# Altium schematic symbol library HK_SCHLIB.SchLib: 347 symbols (part 6 of 8)
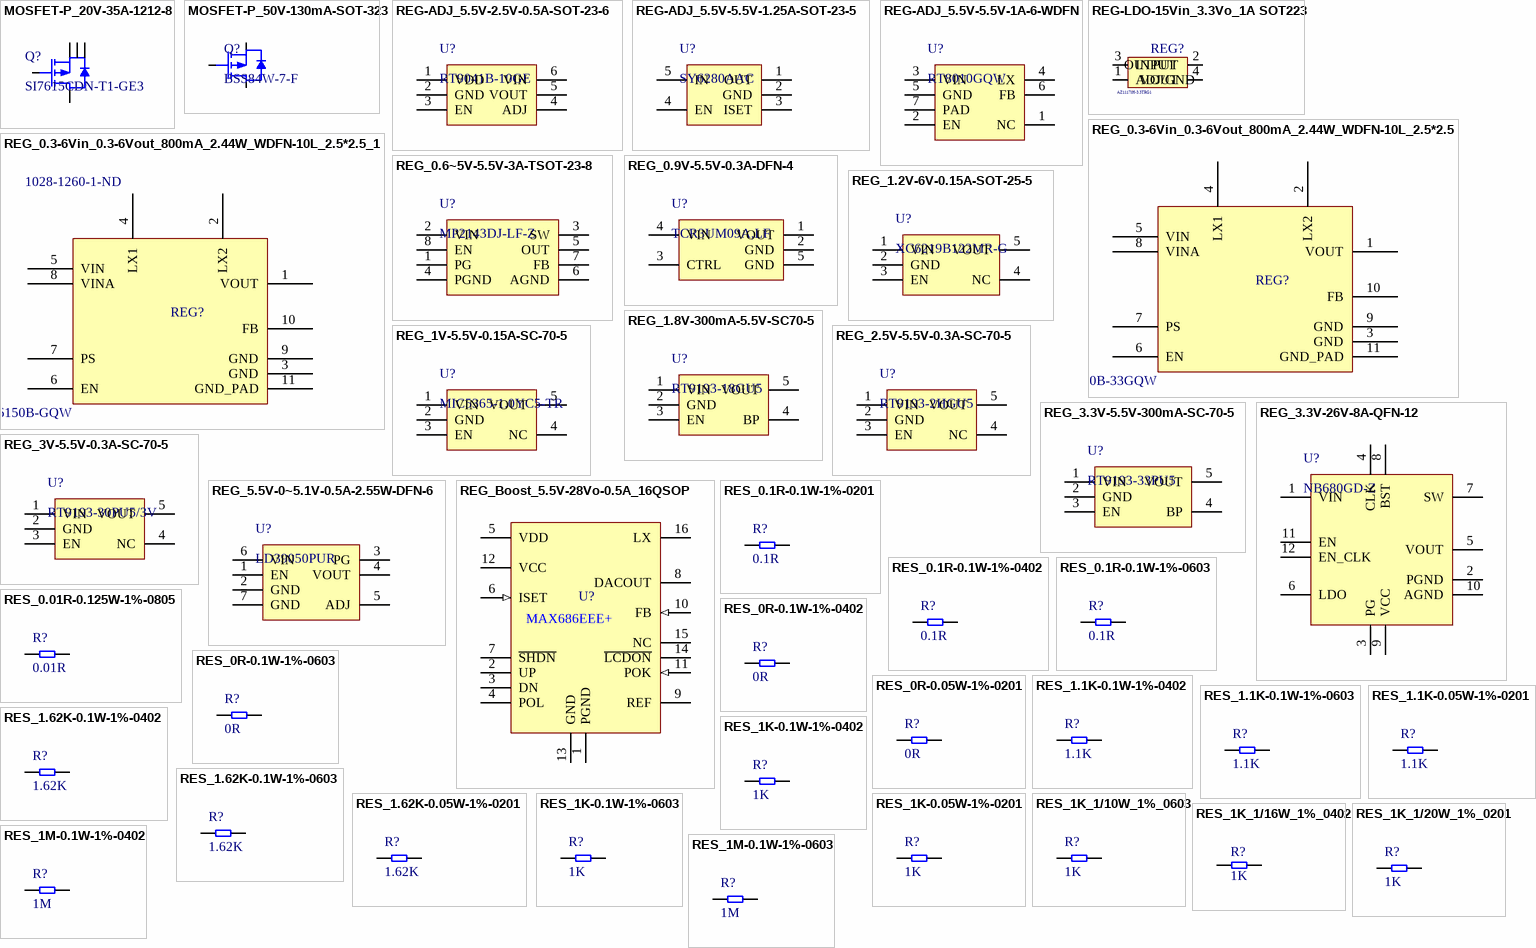
[diagram p20: symbols MOSFET-P_20V-35A-1212-8 to RES_1M-0.1W-1%-0603]

## REG-ADJ_5.5V-5.5V-1.25A-SOT-23-5
designator U?, comment SY6280AAC
SOT-23-5 PMIC - Power Distribution Switches RoHS; Manufacturer: Silergy Corp; Manufacturer Part Number: SY6280AAC; Case/Package: SOT-23-5; Supplier-1: LCSC
footprint SOT23-5 (CASE: SOT)
pins: 1 OUT, 2 GND, 3 ISET, 4 EN, 5 IN

## REG-ADJ_5.5V-5.5V-1A-6-WDFN
designator U?, comment RT8010GQW
Buck Switching Regulator IC Positive Adjustable 0.6V 1 Output 1A 6-WDFN Exposed Pad; Manufacturer: Richtek USA Inc.; Manufacturer Part Number: RT8010GQW; Case/Package: 6-WDFN; Supplier-1: Digikey
footprint WDFN-6_26_133X100_SMD (SMD Package)
pins: 1 NC, 2 EN, 3 VIN, 4 LX, 5 GND, 6 FB, 7 PAD

## REG-LDO-15Vin_3.3Vo_1A SOT223
designator REG?, comment AZ1117IH-3.3TRG1  (value not drawn)
Linear Voltage Regulator IC Positive Fixed 1 Output 3.3V 800mA SOT-223; Manufacturer: Diodes; Supplier 1: Future Electronics; Manufacturer Part Number: AZ1117IH-3.3TRG1; RoHS: Yes; Category: Voltage Regulators - Linear; Stock 1: 12000; Pricing 1: 4000=0.0709, 12000=0.0683, 20000=0.0672, 80000=0.0642, 120000=0.0622 (USD); ComponentLink1URL: https://www.diodes.com/assets/Datasheets/AZ1117I.pdf?src-supplier=Digi-Key; ComponentLink1Description: https://www.diodes.com/assets/Datasheets/AZ1117I.pdf?src-supplier=Digi-Key; ComponentLink2URL: https://datasheet.octopart.com/AZ1117IH-3.3TRG1-Diodes-Inc.-datasheet-141402639.pdf?src-supplier=SHENGYU+ELECTRONICS; ComponentLink2Description: https://datasheet.octopart.com/AZ1117IH-3.3TRG1-Diodes-Inc.-datasheet-141402639.pdf?src-supplier=SHENGYU+ELECTRONICS
footprint SOT223 AZ11171 (SOT223, 4-Leads, Body 6.50x7.00mm (avg), Pitch 2.30mm, IPC Medium Density)
pins: 1 ADJ/GND "1", 2 OUTPUT "1", 3 INPUT "1", 4 VOUT "1"

## REG_0.3-6Vin_0.3-6Vout_800mA_2.44W_WDFN-10L_2.5*2.5
designator REG?  (value not drawn)
IC Reg Bck Bst 3.3V 800MA 10WDFN; Manufacturer: Richtek; Manufacturer Part Number: RT6150B-33GQW; Supplier 1: Digi-Key; RoHS: Yes; Category: Voltage Regulators - Switching; Stock 1: 8568; Pricing 1: 1=1.98, 10=1.782, 25=1.6816, 100=1.4326, 250=1.3452, 500=1.17704 (USD); ComponentLink1URL: https://www.richtek.com/assets/product_file/RT6150A=RT6150B/DS6150AB-05.pdf?src-supplier=Digi-Key; ComponentLink1Description: https://www.richtek.com/assets/product_file/RT6150A=RT6150B/DS6150AB-05.pdf?src-supplier=Digi-Key; ComponentLink2URL: https://datasheet.octopart.com/RT6150B-33GQW-Richtek-datasheet-82510503.pdf?src-supplier=Farnell; ComponentLink2Description: https://datasheet.octopart.com/RT6150B-33GQW-Richtek-datasheet-82510503.pdf?src-supplier=Farnell; ComponentLink3URL: https://datasheet.octopart.com/RT6150B-33GQW-Richtek-datasheet-160668463.pdf?src-supplier=SHENGYU+ELECTRONICS; ComponentLink3Description: https://datasheet.octopart.com/RT6150B-33GQW-Richtek-datasheet-160668463.pdf?src-supplier=SHENGYU+ELECTRONICS
footprint dfn10_BUCK
pins: 1 VOUT, 2 LX2, 3 GND, 4 LX1, 5 VIN, 6 EN, 7 PS, 8 VINA, 9 GND, 10 FB, 11 GND_PAD

## REG_0.3-6Vin_0.3-6Vout_800mA_2.44W_WDFN-10L_2.5*2.5_1
designator REG?  Supplier Part Number 1: 1028-1260-1-ND  (hidden comment: *)
RT6150B Series 1.8 V 800 mA 1 Out ADJ Buck-Boost Switching Reg-10-WDFN; Manufacturer: Richtek; Manufacturer Part Number: RT6150BGQW; Number of Outputs: 1; Output Current: 800mA; Min Input Voltage: 1.8V; Max Input Voltage: 5.5V; Switching Frequency: 1MHz; Synchronous Rectifier: Yes; Output Type: Adjustable; Output Configuration: Positive; Supplier 1: Digi-Key; RoHS: Yes; Category: Voltage Regulators - Switching; Stock 1: 8661; Pricing 1: 1=2.04, 10=1.834, 25=1.7304, 100=1.4743, 250=1.38436, 500=1.21132 (USD); Mount: Surface Mount; Number of Pins: 10; Min Operating Temperature: -40°C; Max Operating Temperature: 85°C; Packaging: Cut Tape; Min Output Voltage: 1.8V; Max Output Voltage: 5.5V; Topology: Buck-Boost; Series: -; Lead Free: Lead Free; RoHS Compliant: Yes; Reach SVHC Compliant: Unknown; ComponentLink1URL: https://datasheet.ciiva.com/28653/1782054-28653061.pdf?src-supplier=Element14; ComponentLink1Description: https://datasheet.ciiva.com/28653/1782054-28653061.pdf?src-supplier=Element14
footprint dfn10_BUCK
pins: 1 VOUT, 2 LX2, 3 GND, 4 LX1, 5 VIN, 6 EN, 7 PS, 8 VINA, 9 GND, 10 FB, 11 GND_PAD
text: RT6150B-GQW

## REG_0.6~5V-5.5V-3A-TSOT-23-8
designator U?, comment MP2143DJ-LF-Z
Switching Voltage Regulators 3A, 5.5V, 1.2MHz Sync Stp-Dwn Swtchr; Manufacturer: Monolithic Power Systems (MPS); Manufacturer Part Number: MP2143DJ-LF-Z; Case/Package: TSOT-23-8; Supplier-1: Mouser
footprint SOT23-8 (Case-SOT)
pins: 1 PG, 2 VIN, 3 SW, 4 PGND, 5 OUT, 6 AGND, 7 FB, 8 EN

## REG_0.9V-5.5V-0.3A-DFN-4
designator U?, comment TCR3UM09A,LF
LDO Voltage Regulators LDO Voltage Reg 300mA 420mW 0.9V; Manufacturer: Toshiba; Manufacturer Part Number: TCR3UM09A,LF; Case/Package: DFN-4; Supplier-1: Mouser
footprint DFN-4 (DFN Package)
pins: 1 VOUT, 2 GND, 3 CTRL, 4 VIN, 5 GND

## REG_1.2V-6V-0.15A-SOT-25-5
designator U?, comment XC6219B122MR-G
LDO Voltage Regulators; Manufacturer: Torex Semiconductor; Manufacturer Part Number: XC6219B122MR-G; Case/Package: SOT-25-5; Supplier-1: Mouser
footprint SOT23-5 (CASE: SOT)
pins: 1 VIN, 2 GND, 3 EN, 4 NC, 5 VOUT

## REG_1.8V-300mA-5.5V-SC70-5
designator U?, comment RT9193-18GU5
Linear Voltage Regulator IC 1 Output 300mA SC-70-5; Manufacturer: Richtek USA Inc.; Manufacturer Part Number: RT9193-18GU5; Case/Package: SC70-5; Supplier-1: Digikey
footprint SC70-5
pins: 1 VIN, 2 GND, 3 EN, 4 BP, 5 VOUT

## REG_1V-5.5V-0.15A-SC-70-5
designator U?, comment MIC5365-1.0YC5-TR
LDO Voltage Regulators Ultra Small Single 150mA LDO; Manufacturer: Microchip Technology / Micrel; Manuafcturer Part Number: MIC5365-1.0YC5-TR; Case/Package: SC-70-5; Supplier-1: Mouser
footprint SC70-5
pins: 1 VIN, 2 GND, 3 EN, 4 NC, 5 VOUT

## REG_2.5V-5.5V-0.3A-SC-70-5
designator U?, comment RT9193-2HGU5
Fixed LDO Voltage Regulator, 2.5V to 5.5V, 220mV Dropout, 2.85Vout, 300mAout, SC-70-5; Manufacturer: RICHTEK; Manufacturer Part Number: RT9193-2HGU5; Case/Package: SC-70; Supplier-1: Element 14
footprint SC70-5
pins: 1 VIN, 2 GND, 3 EN, 4 NC, 5 VOUT

## REG_3.3V-5.5V-300mA-SC-70-5
designator U?, comment RT9193-33PU5
SC-70-5 Dropout Regulators(LDO) RoHS; Manufacturer: Richtek Tech; Manufacturer Part Number: RT9193-33PU5; Case/Package: SC-70-5; Supplier-1: LCSC
footprint SC70-5
pins: 1 VIN, 2 GND, 3 EN, 4 BP, 5 VOUT

## REG_3.3V-26V-8A-QFN-12
designator U?, comment NB680GD-Z
Switching Voltage Regulators 26V Fixed 3.3 V-8A Sync Buck Converter; Manufacturer: Monolithic Power Systems (MPS); Manufacturer Part Number: NB680GD-Z; Case/Package: QFN-12; Supplier-1: Mouser
footprint QFN-12_19_118X118_SMD (QFN Package)
pins: 1 VIN, 2 PGND, 3 PG, 4 CLK, 5 VOUT, 6 LDO, 7 SW, 8 BST, 9 VCC, 10 AGND, 11 EN, 12 EN_CLK

## REG_3V-5.5V-0.3A-SC-70-5
designator U?, comment RT9193-30PU5/3V
The RT9193 is designed for portable RF and wireless / applications with demanding performance and space / requirements; Manufcaturer: RICHTEK; Manufacturer Part Number: RT9193-30PU5/3V; Case/Package: SC-70-5; Supplier-1: NA
footprint SC70-5
pins: 1 VIN, 2 GND, 3 EN, 4 NC, 5 VOUT

## REG_5.5V-0~5.1V-0.5A-2.55W-DFN-6
designator U?, comment LD39050PUR
Adjustable 5.5V 0.8V 500mA DFN-6 Linear Voltage Regulators RoHS; Manufacturer: STMicroelectronics; Alternate Part Number-1: NA; Manufacturer Part Number: LD39050PUR; Case/Package: DFN-6; Supplier-1: LCSC; Supplier Part Number-1: C222094; Category: Regulators; Number of Pins: 6
footprint DFN-6_37.4_165_33X15_SMD (Footprint not found)
pins: 1 EN, 2 GND, 3 PG, 4 VOUT, 5 ADJ, 6 VIN, 7 GND

## REG_Boost_5.5V-28Vo-0.5A_16QSOP
designator U?, comment MAX686EEE+  (value not drawn)
MAX686 Series 27.5 V 300 kHz Boost Surface Mount Switching Regulator - QSOP-16; Manufacturer: Maxim; Supplier 1: Mouser; Manufacturer Part Number: MAX686EEE+; RoHS: Yes; Category: Voltage Regulators - Switching; Stock 1: 2301; Pricing 1: 1=9.04, 10=8.17, 50=7.79, 100=6.76, 1000=5.69, 10000=5.69 (USD); ComponentLink1URL: https://datasheet.ciiva.com/4878/max686-89621-4878736.pdf?src-supplier=Mouser; ComponentLink1Description: https://datasheet.ciiva.com/4878/max686-89621-4878736.pdf?src-supplier=Mouser; ComponentLink2URL: https://datasheet.ciiva.com/3242/max686-3242924.pdf?src-supplier=Avnet; ComponentLink2Description: https://datasheet.ciiva.com/3242/max686-3242924.pdf?src-supplier=Avnet; ComponentLink3URL: https://datasheet.ciiva.com/2029/max686-2029106.pdf?src-supplier=Digi-Key; ComponentLink3Description: https://datasheet.ciiva.com/2029/max686-2029106.pdf?src-supplier=Digi-Key; ComponentLink4URL: https://datasheet.ciiva.com/8004/max686-8004077.pdf?src-supplier=Element14; ComponentLink4Description: https://datasheet.ciiva.com/8004/max686-8004077.pdf?src-supplier=Element14
pins: 1 PGND, 2 UP, 3 DN, 4 POL, 5 VDD, 6 ISET (in), 7 ~{SHDN}, 8 DACOUT, 9 REF, 10 FB (in), 11 POK (in), 12 VCC, 13 GND, 14 ~{LCDON}, 15 NC, 16 LX

## RES_0.1R-0.1W-1%-0201
designator R?, comment 0.1R
100 mOhms ±1% 0.1W, 1/10W Chip Resistor 0201 (0603 Metric) Current Sense Thick Film /; Manufacturer: Rohm Semiconductor; Manufacturer Part Number: UCR006YVPFLR100; Casse/Package: 0201; Supplier-1: Digikey
footprint RES_0201
pins: 1, 2

## RES_0.1R-0.1W-1%-0402
designator R?, comment 0.1R
100 mOhms ±1% 0.1W, 1/10W Chip Resistor 0402 (1005 Metric) Current Sense, Moisture Resistant Thick Film /; Manufacturer: Samsung Electro-Mechanics; Manufacturer Part Number: RUT1005FR100CS; Casse/Package: 0402; Supplier-1: Digikey
footprint RES_0402
pins: 1, 2

## RES_0.1R-0.1W-1%-0603
designator R?, comment 0.1R
100 mOhms ±1% 0.1W, 1/10W Chip Resistor 0603 (1608 Metric) Automotive AEC-Q200, Current Sense Thick Film /; Manufacturer: Panasonic Electronic Components; Manufacturer Part Number: ERJ-3RSFR10V; Casse/Package: 0603; Supplier-1: Digikey
footprint RES_0603 (CASE: 0603)
pins: 1, 2

## RES_0.01R-0.125W-1%-0805
designator R?, comment 0.01R
RES 0.01 OHM 1% 1/8W 0805; Manufacturer: Yageo; Manufacturer Part Number: RL0805FR-070R01L; Supplier 1: Avnet; RoHS: Yes; Category: Chip SMD Resistors; Stock 1: 4907; Pricing 1: 1=0.704, 25=0.254, 50=0.208, 100=0.164 (USD); ComponentLink1URL: http://www.mouser.com/ds/2/447/PYu-RL_521_RoHS_L_5-2927.pdf?src-supplier=Mouser; ComponentLink1Description: http://www.mouser.com/ds/2/447/PYu-RL_521_RoHS_L_5-2927.pdf?src-supplier=Mouser; ComponentLink2URL: http://www.yageo.com/exep/pages/download/literatures/R-chip_current%20sensor_20140512.pdf?src-supplier=Digi-Key; ComponentLink2Description: http://www.yageo.com/exep/pages/download/literatures/R-chip_current%20sensor_20140512.pdf?src-supplier=Digi-Key; ComponentLink3URL: https://www.yageo.com/upload/media/product/productsearch/datasheet/rchip/PYu-RL_Group_521_RoHS_L_2.pdf?src-supplier=Digi-Key; ComponentLink3Description: https://www.yageo.com/upload/media/product/productsearch/datasheet/rchip/PYu-RL_Group_521_RoHS_L_2.pdf?src-supplier=Digi-Key; ComponentLink4URL: https://datasheet.octopart.com/RL0805FR-070R01L-Yageo-datasheet-137700928.pdf?src-supplier=Future+Electronics; ComponentLink4Description: https://datasheet.octopart.com/RL0805FR-070R01L-Yageo-datasheet-137700928.pdf?src-supplier=Future+Electronics; ComponentLink5URL: http://www.yageo.com/documents/recent/PYu-RL_521_RoHS_L_5.pdf?src-supplier=Avnet; ComponentLink5Description: http://www.yageo.com/documents/recent/PYu-RL_521_RoHS_L_5.pdf?src-supplier=Avnet
footprint RES_0805
pins: 1, 2

## RES_0R-0.1W-1%-0402
designator R?, comment 0R
0 Ohms Jumper 0.1W, 1/10W Chip Resistor 0402 (1005 Metric) Automotive AEC-Q200 Thick Film; Manufacturer: Panasonic Electronic Components; Manufacturer Part Number: ERJ-2GE0R00X; Case/Package: 0402; Supplier-1: Digikey
footprint RES_0402
pins: 1, 2

## RES_0R-0.1W-1%-0603
designator R?, comment 0R
0 Ohms Jumper 0.1W, 1/10W Chip Resistor 0603 (1608 Metric) Thick Film; Manufacturer: Yageo; Manufacturer Part Number: RC0603JR-070RL; Case/Package: 0603; Supplier-1: Digikey
footprint RES_0603 (CASE: 0603)
pins: 1, 2

## RES_0R-0.05W-1%-0201
designator R?, comment 0R
0 Ohms Jumper 0.05W, 1/20W Chip Resistor 0201 (0603 Metric) Automotive AEC-Q200 Thick Film; Manufacturer: Bourns Inc.; Manufacturer Part Number: CR0201AJ/-000GLF; Case/Package: 0201; Supplier-1: Digikey
footprint RES_0201
pins: 1, 2

## RES_1.1K-0.1W-1%-0402
designator R?, comment 1.1K
1.1 kOhms ±1% 0.1W, 1/10W Chip Resistor 0402 (1005 Metric) Automotive AEC-Q200 Thick Film /; Manufacturer: Panasonic Electronic Components; Manufacturer Part Number: ERJ-2RKF1101X; Case/Package: 0402; Supplier-1: Digikey
footprint RES_0402
pins: 1, 2

## RES_1.1K-0.1W-1%-0603
designator R?, comment 1.1K
47 kOhms ±1% 0.1W, 1/10W Chip Resistor 0603 (1608 Metric) Thick Film /; Manufacturer: Yageo; Manufacturer Part Number: RC0603FR-0747KL; Case/Package: 0603; Supplier-1: Digikey
footprint RES_0603 (CASE: 0603)
pins: 1, 2

## RES_1.1K-0.05W-1%-0201
designator R?, comment 1.1K
1.1 kOhms ±1% 0.05W, 1/20W Chip Resistor 0201 (0603 Metric) Automotive AEC-Q200 Thick Film /; Manufacturer: Panasonic Electronic Components; Manufacturer Part Number: ERJ-1GNF1101C; Case/Package: 0201; Supplier-1: Digikey
footprint RES_0201
pins: 1, 2

## RES_1.62K-0.1W-1%-0402
designator R?, comment 1.62K
1.62 kOhms ±1% 0.1W, 1/10W Chip Resistor 0402 (1005 Metric) Automotive AEC-Q200 Thick Film /; Manufacturer: Panasonic Electronic Components; Manufacturer Part Number: ERJ-2RKF1621X; Case/Package: 0402; Supplier-1: Digikey
footprint RES_0402
pins: 1, 2

## RES_1.62K-0.1W-1%-0603
designator R?, comment 1.62K
1.62 kOhms ±1% 0.1W, 1/10W Chip Resistor 0603 (1608 Metric) Automotive AEC-Q200 Thick Film /; Manufacturer: Stackpole Electronics Inc; Manufacturer Part Number: RMCF0603FT1K62; Case/Package: 0603; Supplier-1: Digikey
footprint RES_0603 (CASE: 0603)
pins: 1, 2

## RES_1.62K-0.05W-1%-0201
designator R?, comment 1.62K
1.62 kOhms ±1% 0.05W, 1/20W Chip Resistor 0201 (0603 Metric) Automotive AEC-Q200 Thick Film /; Manufacturer: Panasonic Electronic Components; Manufacturer Part Number: ERJ-1GNF1621C; Case/Package: 0201; Supplier-1: Digikey
footprint RES_0201
pins: 1, 2

## RES_1K-0.1W-1%-0402
designator R?, comment 1K
1 kOhms ±1% 0.1W, 1/10W Chip Resistor 0402 (1005 Metric) Anti-Sulfur Thin Film /; Manufacturer: Vishay Beyschlag/Draloric/BC Components; Manufacturer Part Number: MCS04020C1001FE000; Case/Package: 0402; Supplier-1: Digikey
footprint RES_0402
pins: 1, 2

## RES_1K-0.1W-1%-0603
designator R?, comment 1K
1 kOhms ±1% 0.1W, 1/10W Chip Resistor 0603 (1608 Metric) Thick Film /; Manufacturer: Yageo; Manufacturer Part Number: RC0603FR-071KL; Case/Package: 0603; Supplier-1: Digikey
footprint RES_0603 (CASE: 0603)
pins: 1, 2

## RES_1K-0.05W-1%-0201
designator R?, comment 1K
1 kOhms ±1% 0.05W, 1/20W Chip Resistor 0201 (0603 Metric) Thick Film /; Manufacturer: Yageo; Manufacturer Part Number: RC0201FR-071KL; Case/Package: 0201; Supplier-1: Digikey
footprint RES_0201
pins: 1, 2

## RES_1K_1/10W_1%_0603
designator R?, comment 1K
SMD Chip Resistor, 1 kOhm, ± 1%, 100 mW, 0603 [1608 Metric], Thick Film, General Purpose; Manufacturer: Yageo; Manufacturer Part Number: RC0603FR-071KL; Resistance: 1kR; Temperature Coefficient: 100ppm/°C; Power Rating: 100mW; Voltage Rating: 50V; Supplier 1: Future Electronics; RoHS: Yes; Category: Chip SMD Resistors; Stock 1: 10830000; Pricing 1: 5000=0.0014, 50000=0.0013, 200000=0.0012, 625000=0.0012, 2000000=0.0011 (USD); Case/Package: 0603; Contact Plating: Tin,Matte; Case Code (Imperial): 0603; Case Code (Metric): 1608; Size Code: 0603; Min Operating Temperature: -55°C; Max Operating Temperature: 155°C; Tolerance: 1%; Resistor Type: Thick Film; Packaging: Tape and Reel; Termination: SMD/SMT; Features: Moisture Resistant; Series: RC; Max Power Dissipation: 100mW; Number of Terminations: 2; Technology: THICK FILM; Resistance Tolerance: 1%; Construction: Rectangular; Length: 1.6mm; Height: 0.45mm; Depth: 0.8mm; Reach SVHC Compliant: No; Lead Free: Lead Free; Military Standard: Not; RoHS Compliant: Yes
footprint RES_0603
pins: 1, 2

## RES_1K_1/16W_1%_0402
designator R?, comment 1K
SMD Chip Resistor, 1 kOhm, ± 1%, 63 mW, 0402 [1005 Metric], Thick Film, General Purpose; Manufacturer 1: Yageo; Manufacturer Part Number 1: RC0402FR-071KL; Resistance: 1kR; Temperature Coefficient: 100ppm/°C; Voltage Rating (DC): 50V; Power Rating: 62.5mW; Max Power Dissipation: 63mW; ComponentLink1URL: https://datasheet.ciiva.com/11819/0900766b80c66297-11819477.pdf?src-supplier=Rs; ComponentLink1Description: https://datasheet.ciiva.com/11819/0900766b80c66297-11819477.pdf?src-supplier=Rs; ComponentLink2URL: https://datasheet.ciiva.com/7983/1018594-7983502.pdf?src-supplier=Element14; ComponentLink2Description: https://datasheet.ciiva.com/7983/1018594-7983502.pdf?src-supplier=Element14; ComponentLink3URL: https://datasheet.ciiva.com/22747/1018594-22747513.pdf?src-supplier=Element14; ComponentLink3Description: https://datasheet.ciiva.com/22747/1018594-22747513.pdf?src-supplier=Element14; ComponentLink4URL: https://datasheet.ciiva.com/12666/pyu-rc0402-51-rohs-l-6-r-12666741.pdf?src-supplier=Mouser; ComponentLink4Description: https://datasheet.ciiva.com/12666/pyu-rc0402-51-rohs-l-6-r-12666741.pdf?src-supplier=Mouser; ComponentLink5URL: https://datasheet.ciiva.com/7849/1018594-7849869.pdf?src-supplier=Element14; ComponentLink5Description: https://datasheet.ciiva.com/7849/1018594-7849869.pdf?src-supplier=Element14; ComponentLink6URL: https://datasheet.ciiva.com/7849/1018594-7849871.pdf?src-supplier=Element14; ComponentLink6Description: https://datasheet.ciiva.com/7849/1018594-7849871.pdf?src-supplier=Element14; ComponentLink7URL: https://datasheet.ciiva.com/17063/pyu-rc0402-51-rohs-l-6-r-17063193.pdf?src-supplier=Future+Electronics; ComponentLink7Description: https://datasheet.ciiva.com/17063/pyu-rc0402-51-rohs-l-6-r-17063193.pdf?src-supplier=Future+Electronics; Supplier 1: Digi-Key; RoHS: Yes; Category: Chip SMD Resistors; Stock 1: 25075192; Pricing 1: 1=0.1, 10=0.014, 50=0.0084, 100=0.007, 500=0.00464, 1000=0.00396, 5000=0.00282 (USD); Case/Package: 0402; Number of Pins: 2; Case Code (Imperial): 0402; Case Code (Metric): 1005; Size Code: 0402; Min Operating Temperature: -55°C; Max Operating Temperature: 155°C; Resistor Type: Thick Film; Tolerance: 1%; Packaging: Tape and Reel; Voltage Rating: 50V; Termination: SMD/SMT; Features: Moisture Resistant; Series: RC; Number of Terminations: 2; Resistance Tolerance: 1%; Construction: Rectangular; Technology: THICK FILM; Length: 1mm; Width: 0.5mm; Height: 0.32mm; Depth: 0.5mm; Reach SVHC Compliant: No; Lead Free: Lead Free; RoHS Compliant: Yes; Military Standard: Not; Supplier Part Number 1: 311-1.00KLRCT-ND
footprint RES_0402
pins: 1, 2

## RES_1K_1/20W_1%_0201
designator R?, comment 1K
SMD Chip Resistor, 1 kOhm, ± 1%, 50 mW, 0201 [0603 Metric], Thick Film, General Purpose; Manufacturer: Yageo; Manufacturer Part Number: RC0201FR-071KL; Resistance: 1kR; Temperature Coefficient: 200ppm/°C; Power Rating: 50mW; Voltage Rating: 25V; Supplier 1: Future Electronics; RoHS: Yes; Category: Chip SMD Resistors; Stock 1: 7500000; Pricing 1: 10000=0.0012, 50000=0.0012, 250000=0.0011, 750000=0.0011, 2000000=0.001 (USD); Case/Package: 0201; Contact Plating: Tin,Matte; Case Code (Metric): 0603; Case Code (Imperial): 0201; Min Operating Temperature: -55°C; Max Operating Temperature: 125°C; Tolerance: 1%; Resistor Type: Thick Film; Package Quantity: 10000; Packaging: Tape and Reel; Number of Terminations: 2; Termination: SMD/SMT; Max Power Dissipation: 50mW; Working Voltage: 25V; Features: Moisture Resistant; Series: RC; Resistance Tolerance: 1%; Technology: THICK FILM; Construction: Rectangular; Length: 0.024inch; Width: 0.012inch; Height: 0.01inch; Depth: 0.3mm; Military Standard: Not; Lead Free: Lead Free; RoHS Compliant: Yes; Reach SVHC Compliant: Unknown; ComponentLink1URL: https://datasheet.ciiva.com/7672/1563626-7672204.pdf?src-supplier=Element14; ComponentLink1Description: https://datasheet.ciiva.com/7672/1563626-7672204.pdf?src-supplier=Element14; ComponentLink2URL: https://datasheet.ciiva.com/22698/1563626-22698505.pdf?src-supplier=Element14; ComponentLink2Description: https://datasheet.ciiva.com/22698/1563626-22698505.pdf?src-supplier=Element14; ComponentLink3URL: https://datasheet.ciiva.com/29721/pyu-r-int-thick-7-29721196.pdf?src-supplier=Digi-Key; ComponentLink3Description: https://datasheet.ciiva.com/29721/pyu-r-int-thick-7-29721196.pdf?src-supplier=Digi-Key; ComponentLink4URL: https://datasheet.ciiva.com/29721/pyu-r-int-thick-7-29721195.pdf?src-supplier=Digi-Key; ComponentLink4Description: https://datasheet.ciiva.com/29721/pyu-r-int-thick-7-29721195.pdf?src-supplier=Digi-Key; ComponentLink5URL: https://datasheet.ciiva.com/8896/pyu-rc0201-51-rohs-l-8-8896174.pdf?src-supplier=Avnet; ComponentLink5Description: https://datasheet.ciiva.com/8896/pyu-rc0201-51-rohs-l-8-8896174.pdf?src-supplier=Avnet
footprint RES_0201
pins: 1, 2

## RES_1M-0.1W-1%-0402
designator R?, comment 1M
1 MOhms ±1% 0.1W, 1/10W Chip Resistor 0402 (1005 Metric) Anti-Sulfur Thin Film /; Manufacturer: Vishay Beyschlag/Draloric/BC Components; Manufacturer Part Number: MCS04020C1004FE000; Case/Package: 0402; Supplier-1: Digikey
footprint RES_0402
pins: 1, 2

## RES_1M-0.1W-1%-0603
designator R?, comment 1M
1 MOhms ±1% 0.1W, 1/10W Chip Resistor 0603 (1608 Metric) Thick Film /; Manufacturer: Yageo; Manufacturer Part Number: RC0603FR-071ML; Case/Package: 0603; Supplier-1: Digikey
footprint RES_0603 (CASE: 0603)
pins: 1, 2

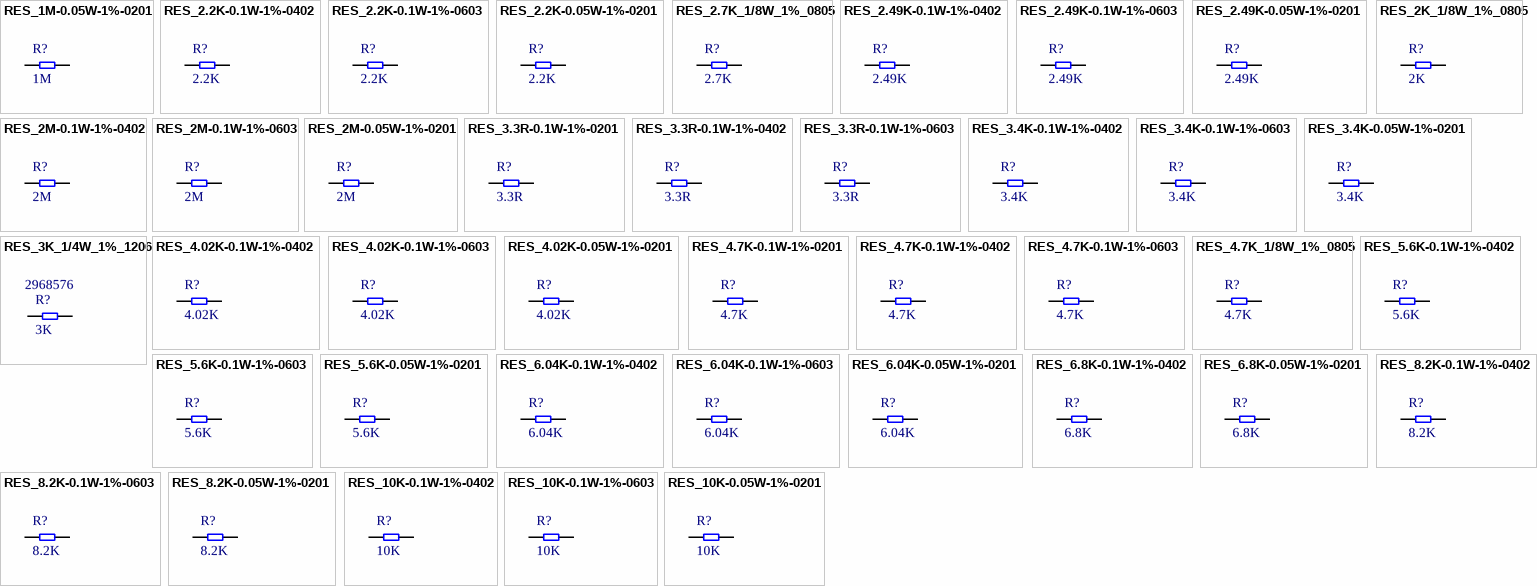
[diagram p12: symbols RES_1M-0.05W-1%-0201 to RES_10K-0.05W-1%-0201]

## RES_1M-0.05W-1%-0201
designator R?, comment 1M
1 MOhms ±1% 0.05W, 1/20W Chip Resistor 0201 (0603 Metric) Thick Film /; Manufacturer: Yageo; Manufacturer Part Number: RC0201FR-071ML; Case/Package: 0201; Supplier-1: Digikey
footprint RES_0201
pins: 1, 2

## RES_2.2K-0.1W-1%-0402
designator R?, comment 2.2K
2.2 kOhms ±1% 0.1W, 1/10W Chip Resistor 0402 (1005 Metric) Automotive AEC-Q200 Thick Film /; Manufacturer: Panasonic Electronic Components; Manufacturer Part Number: ERJ-2RKF2201X; Case/Package: 0402; Supplier-1: Digikey
footprint RES_0402
pins: 1, 2

## RES_2.2K-0.1W-1%-0603
designator R?, comment 2.2K
2.2 kOhms ±1% 0.1W, 1/10W Chip Resistor 0603 (1608 Metric) Thick Film /; Manufacturer: Yageo; Manufacturer Part Number: RC0603FR-072K2L; Case/Package: 0603; Supplier-1: Digikey
footprint RES_0603 (CASE: 0603)
pins: 1, 2

## RES_2.2K-0.05W-1%-0201
designator R?, comment 2.2K
2.2 kOhms ±1% 0.05W, 1/20W Chip Resistor 0201 (0603 Metric) Thick Film /; Manufacturer: Stackpole Electronics Inc; Manufacturer Part Number: RMCF0201FT2K20; Case/Package: 0201; Supplier-1: Digikey
footprint RES_0201
pins: 1, 2

## RES_2.7K_1/8W_1%_0805
designator R?, comment 2.7K
Res Thick Film 0805 2.7K Ohm 1% 0.125W(1/8W) ±100ppm/C Pad SMD T/R; Manufacturer: Yageo; Manufacturer Part Number: RC0805FR-072K7L; Supplier 1: Future Electronics; RoHS: Yes; Category: Chip SMD Resistors; Stock 1: 470000; Pricing 1: 5000=0.0026, 25000=0.0024, 125000=0.0023, 375000=0.0022, 1000000=0.002 (USD); ComponentLink1URL: https://datasheet.ciiva.com/11819/0900766b8106beab-11819827.pdf?src-supplier=Rs; ComponentLink1Description: https://datasheet.ciiva.com/11819/0900766b8106beab-11819827.pdf?src-supplier=Rs; ComponentLink2URL: https://datasheet.ciiva.com/2457/pyu-r-int-thick-7-2457116.pdf?src-supplier=Digi-Key; ComponentLink2Description: https://datasheet.ciiva.com/2457/pyu-r-int-thick-7-2457116.pdf?src-supplier=Digi-Key; ComponentLink3URL: https://datasheet.ciiva.com/2457/pyu-r-int-thick-7-2457117.pdf?src-supplier=Digi-Key; ComponentLink3Description: https://datasheet.ciiva.com/2457/pyu-r-int-thick-7-2457117.pdf?src-supplier=Digi-Key; ComponentLink4URL: https://datasheet.ciiva.com/2457/pyu-r-int-thick-7-2457118.pdf?src-supplier=Digi-Key; ComponentLink4Description: https://datasheet.ciiva.com/2457/pyu-r-int-thick-7-2457118.pdf?src-supplier=Digi-Key; ComponentLink5URL: https://datasheet.ciiva.com/7941/444164-7941756.pdf?src-supplier=Element14; ComponentLink5Description: https://datasheet.ciiva.com/7941/444164-7941756.pdf?src-supplier=Element14; ComponentLink6URL: https://datasheet.ciiva.com/7941/444164-7941757.pdf?src-supplier=Element14; ComponentLink6Description: https://datasheet.ciiva.com/7941/444164-7941757.pdf?src-supplier=Element14
footprint RES_0805
pins: 1, 2

## RES_2.49K-0.1W-1%-0402
designator R?, comment 2.49K
2.49 kOhms ±1% 0.1W, 1/10W Chip Resistor 0402 (1005 Metric) Automotive AEC-Q200 Thick Film /; Manufacturer: Panasonic Electronic Components; Manufacturer Part Number: ERJ-2RKF2491X; Case/Package: 0402; Supplier-1: Digikey
footprint RES_0402
pins: 1, 2

## RES_2.49K-0.1W-1%-0603
designator R?, comment 2.49K
2.49 kOhms ±1% 0.1W, 1/10W Chip Resistor 0603 (1608 Metric) Automotive AEC-Q200 Thick Film /; Manufacturer: Stackpole Electronics Inc; Manufacturer Part Number: RMCF0603FT2K49; Case/Package: 0603; Supplier-1: Digikey
footprint RES_0603 (CASE: 0603)
pins: 1, 2

## RES_2.49K-0.05W-1%-0201
designator R?, comment 2.49K
2.49 kOhms ±1% 0.05W, 1/20W Chip Resistor 0201 (0603 Metric) Automotive AEC-Q200 Thick Film /; Manufacturer: Panasonic Electronic Components; Manufacturer Part Number: ERJ-1GNF2491C; Case/Package: 0201; Supplier-1: Digikey
footprint RES_0201
pins: 1, 2

## RES_2K_1/8W_1%_0805
designator R?, comment 2K
Res Thick Film 0805 2K Ohm 1% 1/8W ±100ppm/°C Molded SMD SMD Paper T/R; Manufacturer: Yageo; Manufacturer Part Number: RC0805FR-102KL; Resistance: 2kR; Supplier 1: Digi-Key; RoHS: Yes; Category: Chip SMD Resistors; Stock 1: 15580; Pricing 1: 1=0.1, 10=0.024, 50=0.0152, 100=0.0127, 500=0.00866, 1000=0.00748, 5000=0.00548 (USD); Case/Package: 0805; Contact Plating: Tin,Matte; Min Operating Temperature: -55°C; Max Operating Temperature: 155°C; Tolerance: 1%; Temperature Coefficient: 100ppm/°C; RoHS Compliant: Yes; ComponentLink1URL: http://www.yageo.com/documents/recent/PYu-RC_Group_51_RoHS_L_2.pdf?src-supplier=Avnet; ComponentLink1Description: http://www.yageo.com/documents/recent/PYu-RC_Group_51_RoHS_L_2.pdf?src-supplier=Avnet
footprint RES_0805
pins: 1, 2

## RES_2M-0.1W-1%-0402
designator R?, comment 2M
2 MOhms ±1% 0.1W, 1/10W Chip Resistor 0402 (1005 Metric) Anti-Sulfur Thin Film /; Manufacturer: Vishay Beyschlag/Draloric/BC Components; Manufacturer Part Number: MCS04020C2004FE000; Case/Package: 0402; Supplier-1: Digikey
footprint RES_0402
pins: 1, 2

## RES_2M-0.1W-1%-0603
designator R?, comment 2M
2 MOhms ±1% 0.1W, 1/10W Chip Resistor 0603 (1608 Metric) Automotive AEC-Q200, Moisture Resistant Thick Film /; Manufacturer: KOA Speer Electronics, Inc.; Manufacturer Part Number: RK73H1JTTD2004F; Case/Package: 0603; Supplier-1: Digikey
footprint RES_0603 (CASE: 0603)
pins: 1, 2

## RES_2M-0.05W-1%-0201
designator R?, comment 2M
2 MOhms ±1% 0.05W, 1/20W Chip Resistor 0201 (0603 Metric) Thick Film /; Manufacturer: Yageo; Manufacturer Part Number: RC0201FR-072ML; Case/Package: 0201; Supplier-1: Digikey
footprint RES_0201
pins: 1, 2

## RES_3.3R-0.1W-1%-0201
designator R?, comment 3.3R
3.3 Ohms ±1% 0.05W, 1/20W Chip Resistor 0201 (0603 Metric) Thick Film /; Manufacturer: Vishay Dale; Manufacturer Part Number: CRCW02013R30FXED; Case/Package: 0201; Supplier-1: Digikey
footprint RES_0201
pins: 1, 2

## RES_3.3R-0.1W-1%-0402
designator R?, comment 3.3R
3.3 Ohms ±1% 0.1W, 1/10W Chip Resistor 0402 (1005 Metric) Anti-Sulfur, Automotive AEC-Q200 Thick Film /; Manufacturer: Panasonic Electronic Components; Manufacturer Part Number: ERJ-U02F3R30X; Case/Package: 0402; Supplier-1: Digikey
footprint RES_0402
pins: 1, 2

## RES_3.3R-0.1W-1%-0603
designator R?, comment 3.3R
3.3 Ohms ±1% 0.1W, 1/10W Chip Resistor 0603 (1608 Metric) Automotive AEC-Q200, Current Sense Thick Film /; Manufacturer: Panasonic Electronic Components; Manufacturer Part Number: ERJ-3RQF3R3V; Case/Package: 0603; Supplier-1: Digikey
footprint RES_0603 (CASE: 0603)
pins: 1, 2

## RES_3.4K-0.1W-1%-0402
designator R?, comment 3.4K
3.4 kOhms ±1% 0.1W, 1/10W Chip Resistor 0402 (1005 Metric) Automotive AEC-Q200 Thick Film /; Manufacturer: Panasonic Electronic Components; Manufacturer Part Number: ERJ-2RKF3401X; Case/Package: 0402; Supplier-1: Digikey
footprint RES_0402
pins: 1, 2

## RES_3.4K-0.1W-1%-0603
designator R?, comment 3.4K
3.4 kOhms ±1% 0.1W, 1/10W Chip Resistor 0603 (1608 Metric) Automotive AEC-Q200 Thick Film /; Manufacturer: Stackpole Electronics Inc; Manufacturer Part Number: RMCF0603FT3K40; Case/Package: 0603; Supplier-1: Digikey
footprint RES_0603 (CASE: 0603)
pins: 1, 2

## RES_3.4K-0.05W-1%-0201
designator R?, comment 3.4K
3.4 kOhms ±1% 0.05W, 1/20W Chip Resistor 0201 (0603 Metric) Thick Film /; Manufacturer: Yageo; Manufacturer Part Number: RC0201FR-073K4L; Case/Package: 0201; Supplier-1: Digikey
footprint RES_0201
pins: 1, 2

## RES_3K_1/4W_1%_1206
designator R?, comment 3K  Supplier Part Number 1: 2968576
SMD Chip Resistor, 3 kOhm, ± 1%, 250 mW, 1206 [3216 Metric], Thick Film, General Purpose; Manufacturer: Yageo; Manufacturer Part Number: RC1206FR-073KL; Resistance: 3kR; Power Rating: 250mW; Voltage Rating: 200V; Temperature Coefficient: 100ppm/°C; Supplier 1: Future Electronics; RoHS: Yes; Category: Chip SMD Resistors; Stock 1: 110000; Pricing 1: 5000=0.0037, 25000=0.0035, 125000=0.0033, 250000=0.0032, 750000=0.0029 (USD); Mount: Surface Mount; Case/Package: 1206; Case Code (Metric): 3216; Case Code (Imperial): 1206; Size Code: 1206; Min Operating Temperature: -55°C; Max Operating Temperature: 155°C; Package Quantity: 1; Tolerance: 1%; Packaging: Tape and Reel; Number of Terminations: 2; Termination: SMD/SMT; Max Power Dissipation: 250mW; Voltage Rating (DC): 200V; Features: Moisture Resistant; Series: RC; Technology: THICK FILM; Length: 3.1mm; Width: 0.063inch; Height: 0.55mm; Depth: 1.6mm; Lead Free: Lead Free; RoHS Compliant: Yes; ComponentLink1URL: https://datasheet.ciiva.com/11808/0900766b80c6630a-11808324.pdf?src-supplier=Rs; ComponentLink1Description: https://datasheet.ciiva.com/11808/0900766b80c6630a-11808324.pdf?src-supplier=Rs; ComponentLink2URL: https://datasheet.ciiva.com/2460/pyu-rc1206-51-rohs-l-4-2460145.pdf?src-supplier=Digi-Key; ComponentLink2Description: https://datasheet.ciiva.com/2460/pyu-rc1206-51-rohs-l-4-2460145.pdf?src-supplier=Digi-Key; ComponentLink3URL: https://datasheet.ciiva.com/2460/pyu-rc1206-51-rohs-l-4-2460146.pdf?src-supplier=Digi-Key; ComponentLink3Description: https://datasheet.ciiva.com/2460/pyu-rc1206-51-rohs-l-4-2460146.pdf?src-supplier=Digi-Key; ComponentLink4URL: https://datasheet.ciiva.com/2460/pyu-rc1206-51-rohs-l-4-2460144.pdf?src-supplier=Digi-Key; ComponentLink4Description: https://datasheet.ciiva.com/2460/pyu-rc1206-51-rohs-l-4-2460144.pdf?src-supplier=Digi-Key
footprint RES_1206
pins: 1, 2

## RES_4.02K-0.1W-1%-0402
designator R?, comment 4.02K
4.02 kOhms ±1% 0.1W, 1/10W Chip Resistor 0402 (1005 Metric) Automotive AEC-Q200 Thick Film /; Manufacturer: Panasonic Electronic Components; Manufacturer Part Number: ERJ-2RKF4021X; Case/Package: 0402; Supplier-1: Digikey
footprint RES_0402
pins: 1, 2

## RES_4.02K-0.1W-1%-0603
designator R?, comment 4.02K
4.02 kOhms ±1% 0.1W, 1/10W Chip Resistor 0603 (1608 Metric) Automotive AEC-Q200 Thick Film /; Manufacturer: Stackpole Electronics Inc; Manufacturer Part Number: RMCF0603FT4K02; Case/Package: 0603; Supplier-1: Digikey
footprint RES_0603 (CASE: 0603)
pins: 1, 2

## RES_4.02K-0.05W-1%-0201
designator R?, comment 4.02K
4.02 kOhms ±1% 0.05W, 1/20W Chip Resistor 0201 (0603 Metric) Thick Film /; Manufacturer: Yageo; Manufacturer Part Number: RC0201FR-074K02L; Case/Package: 0201; Supplier-1: Digikey
footprint RES_0201
pins: 1, 2

## RES_4.7K-0.1W-1%-0201
designator R?, comment 4.7K
4.02 kOhms ±1% 0.05W, 1/20W Chip Resistor 0201 (0603 Metric) Thick Film /; Manufacturer: Yageo; Manufacturer Part Number: RC0201FR-074K02L; Case/Package: 0201; Supplier-1: Digikey
footprint RES_0201
pins: 1, 2

## RES_4.7K-0.1W-1%-0402
designator R?, comment 4.7K
Res Thick Film 0402 4.7K Ohm 1% 0.1W ±100ppm/°C Molded SMD Punched Carrier T/R; Manufacturer 1: Panasonic; Manufacturer Part Number 1: ERJ-2RKF4701X; Resistance: 4.7kR; Power Rating: 100mW; Voltage Rating: 50V; Supplier 1: Digi-Key; RoHS: Yes; Category: Chip SMD Resistors; Stock 1: 2133842; Pricing 1: 1=0.1, 10=0.029, 50=0.0162, 100=0.0119, 500=0.00728, 1000=0.00535, 5000=0.00384 (USD); Case Code (Metric): 1005; Case Code (Imperial): 0402; Weight: 0.000388oz; Min Operating Temperature: -55°C; Max Operating Temperature: 155°C; Tolerance: 1%; Temperature Coefficient: 100ppm/°C; Packaging: Cut Tape; Package Quantity: 10000; Termination: SMD/SMT; Voltage Rating (DC): 50V; Series: ERJ-2Rx; Technology: THICK FILM; Length: 1mm; Width: 0.5mm; Height: 0.35mm; Lead Free: Lead Free; RoHS Compliant: Yes; ComponentLink1URL: https://datasheet.ciiva.com/11821/0900766b80f80784-11821329.pdf?src-supplier=Rs; ComponentLink1Description: https://datasheet.ciiva.com/11821/0900766b80f80784-11821329.pdf?src-supplier=Rs; ComponentLink2URL: https://datasheet.ciiva.com/7830/aoa0000ce2-7830727.pdf?src-supplier=Element14; ComponentLink2Description: https://datasheet.ciiva.com/7830/aoa0000ce2-7830727.pdf?src-supplier=Element14; ComponentLink3URL: https://datasheet.ciiva.com/22781/1678782-22781576.pdf?src-supplier=Farnell; ComponentLink3Description: https://datasheet.ciiva.com/22781/1678782-22781576.pdf?src-supplier=Farnell; ComponentLink4URL: https://datasheet.ciiva.com/22667/1678782-22667886.pdf?src-supplier=Element14; ComponentLink4Description: https://datasheet.ciiva.com/22667/1678782-22667886.pdf?src-supplier=Element14; ComponentLink5URL: https://datasheet.ciiva.com/22723/1678782-22723903.pdf?src-supplier=Element14; ComponentLink5Description: https://datasheet.ciiva.com/22723/1678782-22723903.pdf?src-supplier=Element14; ComponentLink6URL: https://datasheet.ciiva.com/24025/aoa0000ce2-24025663.pdf?src-supplier=Mouser; ComponentLink6Description: https://datasheet.ciiva.com/24025/aoa0000ce2-24025663.pdf?src-supplier=Mouser; ComponentLink7URL: https://datasheet.ciiva.com/16763/70260748-16763151.pdf?src-supplier=Allied+Electronics; ComponentLink7Description: https://datasheet.ciiva.com/16763/70260748-16763151.pdf?src-supplier=Allied+Electronics; ComponentLink8URL: https://datasheet.ciiva.com/9195/aoa0000ce2-9195737.pdf?src-supplier=Avnet; ComponentLink8Description: https://datasheet.ciiva.com/9195/aoa0000ce2-9195737.pdf?src-supplier=Avnet; ComponentLink9URL: https://datasheet.ciiva.com/30053/aoa0000ce2-30053990.pdf?src-supplier=Onlinecomponents.com; ComponentLink9Description: https://datasheet.ciiva.com/30053/aoa0000ce2-30053990.pdf?src-supplier=Onlinecomponents.com; Supplier Part Number 1: P4.70KLCT-ND
footprint RES_0402
pins: 1, 2

## RES_4.7K-0.1W-1%-0603
designator R?, comment 4.7K
Res General Purpose Thick Film 0603 4.7k Ohm 1% 1/10W ±100ppm/°C Molded Paper T/R; Manufacturer: TE Connectivity Passive Product; Manufacturer Part Number: CRGCQ0603F4K7; Manufacturer 1: TE Connectivity; Resistance: 4.7kR; Max Power Dissipation: 100mW; Case/Package: 0603; Supplier-1: Digikey; Supplier 1: Digi-Key; Manufacturer Part Number 1: CRGCQ0603F4K7; RoHS: Yes; Category: Uncategorized; Stock 1: 259131; Pricing 1: 1=0.1, 10=0.029, 50=0.016, 100=0.0118, 500=0.0072, 1000=0.0053 (USD); Case Code (Imperial): 0603; Case Code (Metric): 1608; Min Operating Temperature: -55°C; Max Operating Temperature: 155°C; Features: Moisture Resistant,Automotive AEC-Q200; Series: CRGCQ; Packaging: Cut Tape; Tolerance: 1%; Temperature Coefficient: 100ppm/°C; Number of Terminations: 2; Ratings: AEC-Q200; RoHS Compliant: Yes; ComponentLink1URL: https://4donline.ihs.com/images/VipMasterIC/IC/TYEL/TYEL-S-A0004929575/TYEL-S-A0004929575-1.pdf?hkey=52A5661711E402568146F3353EA87419&src-supplier=Farnell; ComponentLink1Description: https://4donline.ihs.com/images/VipMasterIC/IC/TYEL/TYEL-S-A0004929575/TYEL-S-A0004929575-1.pdf?hkey=52A5661711E402568146F3353EA87419&src-supplier=Farnell; ComponentLink2URL: https://4donline.ihs.com/images/VipMasterIC/IC/TYEL/TYEL-S-A0004929575/TYEL-S-A0004929575-1.pdf?hkey=52A5661711E402568146F3353EA87419&src-supplier=Element14; ComponentLink2Description: https://4donline.ihs.com/images/VipMasterIC/IC/TYEL/TYEL-S-A0004929575/TYEL-S-A0004929575-1.pdf?hkey=52A5661711E402568146F3353EA87419&src-supplier=Element14; ComponentLink3URL: https://4donline.ihs.com/images/VipMasterIC/IC/TYEL/TYEL-S-A0004929575/TYEL-S-A0004929575-1.pdf?hkey=52A5661711E402568146F3353EA87419&src-supplier=Newark; ComponentLink3Description: https://4donline.ihs.com/images/VipMasterIC/IC/TYEL/TYEL-S-A0004929575/TYEL-S-A0004929575-1.pdf?hkey=52A5661711E402568146F3353EA87419&src-supplier=Newark; ComponentLink4URL: https://www.te.com/commerce/DocumentDelivery/DDEController?Action=srchrtrv&DocNm=1773204-3&DocType=DS&DocLang=English&src-supplier=Digi-Key; ComponentLink4Description: https://www.te.com/commerce/DocumentDelivery/DDEController?Action=srchrtrv&DocNm=1773204-3&DocType=DS&DocLang=English&src-supplier=Digi-Key; ComponentLink5URL: https://www.te.com/commerce/DocumentDelivery/DDEController?Action=srchrtrv&amp;DocNm=1773204-3&amp;DocType=DS&amp;DocLang=English&src-supplier=Digi-Key; ComponentLink5Description: https://www.te.com/commerce/DocumentDelivery/DDEController?Action=srchrtrv&amp;DocNm=1773204-3&amp;DocType=DS&amp;DocLang=English&src-supplier=Digi-Key; Supplier Part Number 1: A129696CT-ND
footprint RES_0603 (CASE: 0603)
pins: 1, 2

## RES_4.7K_1/8W_1%_0805
designator R?, comment 4.7K
Res Thick Film 0805 4.7K Ohm 1% 1/8W ±100ppm/°C SMD Paper T/R; Manufacturer: Yageo; Manufacturer Part Number: RC0805FR-134K7L; Supplier 1: Future Electronics; RoHS: Yes; Category: Chip SMD Resistors; Stock 1: 1080000; Pricing 1: 20000=0.0025, 80000=0.0023, 300000=0.0022, 600000=0.0022, 1500000=0.002 (USD); ComponentLink1URL: http://www.mouser.com/ds/2/447/Yageo_08112016_RC0805-968729.pdf?src-supplier=Mouser; ComponentLink1Description: http://www.mouser.com/ds/2/447/Yageo_08112016_RC0805-968729.pdf?src-supplier=Mouser; ComponentLink2URL: http://www.yageo.com/pdf/PYu-RC0805_51_RoHS_L_4.pdf?src-supplier=Avnet; ComponentLink2Description: http://www.yageo.com/pdf/PYu-RC0805_51_RoHS_L_4.pdf?src-supplier=Avnet; ComponentLink3URL: https://datasheet.octopart.com/RC0805FR-134K7L-Yageo-datasheet-164759695.pdf?src-supplier=Future+Electronics; ComponentLink3Description: https://datasheet.octopart.com/RC0805FR-134K7L-Yageo-datasheet-164759695.pdf?src-supplier=Future+Electronics; ComponentLink4URL: https://datasheet.octopart.com/RC0805FR-134K7L-Yageo-datasheet-148775077.pdf?src-supplier=TME; ComponentLink4Description: https://datasheet.octopart.com/RC0805FR-134K7L-Yageo-datasheet-148775077.pdf?src-supplier=TME
footprint RES_0805
pins: 1, 2

## RES_5.6K-0.1W-1%-0402
designator R?, comment 5.6K
5.6 kOhms ±1% 0.1W, 1/10W Chip Resistor 0402 (1005 Metric) Automotive AEC-Q200, Moisture Resistant Thick Film /; Manufacturer: KOA Speer Electronics, Inc.; Manufacturer Part Number: RK73H1ETTP5601F; Case/Package: 0402; Supplier-1: Digikey
footprint RES_0402
pins: 1, 2

## RES_5.6K-0.1W-1%-0603
designator R?, comment 5.6K
5.6 kOhms ±1% 0.1W, 1/10W Chip Resistor 0603 (1608 Metric) Automotive AEC-Q200, Moisture Resistant Thick Film /; Manufacturer: TE Connectivity Passive Product; Manufacturer Part Number: CRGCQ0603F5K6; Case/Package: 0603; Supplier-1: Digikey
footprint RES_0603 (CASE: 0603)
pins: 1, 2

## RES_5.6K-0.05W-1%-0201
designator R?, comment 5.6K
5.6 kOhms ±1% 0.05W, 1/20W Chip Resistor 0201 (0603 Metric) Automotive AEC-Q200 Thick Film /; Manufacturer: Panasonic Electronic Components; Manufacturer Part Number: ERJ-1GNF5601C; Case/Package: 0201; Supplier-1: Digikey
footprint RES_0201
pins: 1, 2

## RES_6.04K-0.1W-1%-0402
designator R?, comment 6.04K
6.04 kOhms ±1% 0.1W, 1/10W Chip Resistor 0402 (1005 Metric) Automotive AEC-Q200, Moisture Resistant Thick Film /; Manufacturer: KOA Speer Electronics, Inc.; Manufacturer Part Number: RK73H1ETTP6041F; Case/Package: 0402; Supplier-1: Digikey
footprint RES_0402
pins: 1, 2

## RES_6.04K-0.1W-1%-0603
designator R?, comment 6.04K
6.04 kOhms ±1% 0.1W, 1/10W Chip Resistor 0603 (1608 Metric) Automotive AEC-Q200 Thick Film /; Manufacturer: Stackpole Electronics Inc; Manufacturer Part Number: RMCF0603FT6K04; Case/Package: 0603; Supplier-1: Digikey
footprint RES_0603 (CASE: 0603)
pins: 1, 2

## RES_6.04K-0.05W-1%-0201
designator R?, comment 6.04K
6.04 kOhms ±1% 0.05W, 1/20W Chip Resistor 0201 (0603 Metric) Thick Film /; Manufacturer: Panasonic Electronic Components; Manufacturer Part Number: ERJ-1GEF6041C; Case/Package: 0201; Supplier-1: Digikey
footprint RES_0201
pins: 1, 2

## RES_6.8K-0.1W-1%-0402
designator R?, comment 6.8K
6.8 kOhms ±1% 0.1W, 1/10W Chip Resistor 0402 (1005 Metric) Anti-Sulfur Thin Film /; Manufacturer: Vishay Beyschlag/Draloric/BC Components; Manufacturer Part Number: MCS04020C6801FE000; Supplier-1: Digikey; Case/Package: 0402
footprint RES_0402
pins: 1, 2

## RES_6.8K-0.05W-1%-0201
designator R?, comment 6.8K
6.8 kOhms ±1% 0.05W, 1/20W Chip Resistor 0201 (0603 Metric) Thick Film /; Manufacturer: Yageo; Manufacturer Part Number: RC0201FR-076K8L; Supplier-1: Digikey; Case/Package: 0201
footprint RES_0201
pins: 1, 2

## RES_8.2K-0.1W-1%-0402
designator R?, comment 8.2K
8.2 kOhms ±1% 0.1W, 1/10W Chip Resistor 0402 (1005 Metric) Automotive AEC-Q200, Moisture Resistant Thick Film /; Manufacturer: KOA Speer Electronics, Inc.; Manufacturer Part Number: RK73H1ETTP8201F; Case/Package: 0402; Supplier-1: Digikey
footprint RES_0402
pins: 1, 2

## RES_8.2K-0.1W-1%-0603
designator R?, comment 8.2K
8.2 kOhms ±1% 0.1W, 1/10W Chip Resistor 0603 (1608 Metric) Automotive AEC-Q200 Thick Film /; Manufacturer: Stackpole Electronics Inc; Manufacturer Part Number: RMCF0603FT8K20; Case/Package: 0603; Supplier-1: Digikey
footprint RES_0603 (CASE: 0603)
pins: 1, 2

## RES_8.2K-0.05W-1%-0201
designator R?, comment 8.2K
8.2 kOhms ±1% 0.05W, 1/20W Chip Resistor 0201 (0603 Metric) Thick Film /; Manufacturer: Yageo; Manufacturer Part Number: RC0201FR-078K2L; Case/Package: 0201; Supplier-1: Digikey
footprint RES_0201
pins: 1, 2

## RES_10K-0.1W-1%-0402
designator R?, comment 10K
10 kOhms ±1% 0.1W, 1/10W Chip Resistor 0402 (1005 Metric) Anti-Sulfur Thin Film /; Manufacturer: Vishay Beyschlag/Draloric/BC Components; Manufacturer Part Number: MCS04020C1002FE000; Case/Package: 0402; Supplier-1: Digikey
footprint RES_0402
pins: 1, 2

## RES_10K-0.1W-1%-0603
designator R?, comment 10K
10 kOhms ±1% 0.1W, 1/10W Chip Resistor 0603 (1608 Metric) Thick Film /; Manufacturer: Yageo; Manufacturer Part Number: RC0603FR-0710KL; Case/Package: 0603; Supplier-1: Digikey
footprint RES_0603 (CASE: 0603)
pins: 1, 2

## RES_10K-0.05W-1%-0201
designator R?, comment 10K
10 kOhms ±1% 0.05W, 1/20W Chip Resistor 0201 (0603 Metric) Thick Film /; Manufacturer: Stackpole Electronics Inc; Manufacturer Part Number: RMCF0201FT10K0; Case/Package: 0201; Supplier-1: Digikey
footprint RES_0201
pins: 1, 2

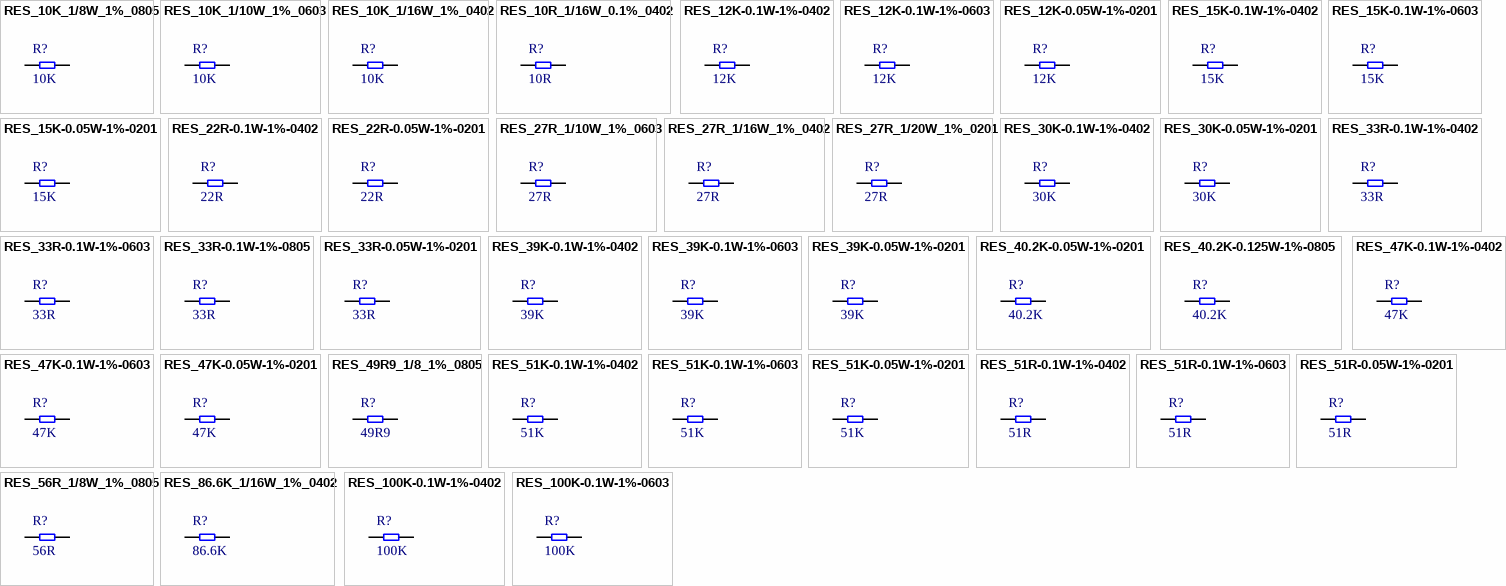
[diagram p13: symbols RES_10K_1/8W_1%_0805 to RES_100K-0.1W-1%-0603]

## RES_10K_1/8W_1%_0805
designator R?, comment 10K
SMD Chip Resistor, 10 kOhm, ± 1%, 125 mW, 0805 [2012 Metric], Thick Film, General Purpose; Manufacturer: Yageo; Manufacturer Part Number: RC0805FR-0710KL; Resistance: 10kR; Temperature Coefficient: 100ppm/°C; Power Rating: 125mW; Voltage Rating: 150V; Supplier 1: Rs; RoHS: Yes; Category: Chip SMD Resistors; Stock 1: 225000; Case/Package: 0805; Case Code (Imperial): 0805; Case Code (Metric): 2012; Size Code: 0805; Min Operating Temperature: -55°C; Max Operating Temperature: 155°C; Packaging: Tape and Reel; Tolerance: 1%; Resistor Type: Thick Film; Package Quantity: 1; Termination: SMD/SMT; Number of Terminations: 2; Max Power Dissipation: 125mW; Features: Moisture Resistant; Series: RC; Construction: Rectangular; Resistance Tolerance: 1%; Technology: THICK FILM; Length: 0.079inch; Width: 0.049inch; Height: 0.024inch; Depth: 1.25mm; Reach SVHC Compliant: Unknown; Lead Free: Lead Free; Military Standard: Not; RoHS Compliant: Yes
footprint RES_0805
pins: 1, 2

## RES_10K_1/10W_1%_0603
designator R?, comment 10K
SMD Chip Resistor, 10 kOhm, ± 1%, 100 mW, 0603 [1608 Metric], Thick Film, General Purpose; Manufacturer 1: Yageo; Manufacturer Part Number 1: RC0603FR-0710KL; Resistance: 10kR; Temperature Coefficient: 100ppm/°C; Voltage Rating (DC): 50V; Power Rating: 100mW; Voltage Rating: 75V; ComponentLink1URL: https://datasheet.ciiva.com/7660/38590-7660789.pdf?src-supplier=Element14; ComponentLink1Description: https://datasheet.ciiva.com/7660/38590-7660789.pdf?src-supplier=Element14; ComponentLink2URL: https://datasheet.ciiva.com/7983/443971-7983596.pdf?src-supplier=Element14; ComponentLink2Description: https://datasheet.ciiva.com/7983/443971-7983596.pdf?src-supplier=Element14; ComponentLink3URL: https://datasheet.ciiva.com/22747/443971-22747519.pdf?src-supplier=Element14; ComponentLink3Description: https://datasheet.ciiva.com/22747/443971-22747519.pdf?src-supplier=Element14; ComponentLink4URL: https://datasheet.ciiva.com/46440/1868787-46440891.pdf?src-supplier=Element14; ComponentLink4Description: https://datasheet.ciiva.com/46440/1868787-46440891.pdf?src-supplier=Element14; ComponentLink5URL: https://datasheet.ciiva.com/7746/1738695-7746239.pdf?src-supplier=Element14; ComponentLink5Description: https://datasheet.ciiva.com/7746/1738695-7746239.pdf?src-supplier=Element14; ComponentLink6URL: https://datasheet.ciiva.com/15189/getdatasheetpartid-409289-15189591.pdf?src-supplier=Verical; ComponentLink6Description: https://datasheet.ciiva.com/15189/getdatasheetpartid-409289-15189591.pdf?src-supplier=Verical; Supplier 1: Digi-Key; RoHS: Yes; Category: Chip SMD Resistors; Stock 1: 24528572; Pricing 1: 1=0.1, 10=0.018, 50=0.0106, 100=0.0088, 500=0.00592, 1000=0.00505 (USD); Case/Package: 0603; Number of Pins: 2; Case Code (Imperial): 0603; Case Code (Metric): 1608; Weight: 7.1E-05oz; Size Code: 0603; Min Operating Temperature: -55°C; Max Operating Temperature: 155°C; Tolerance: 1%; Resistor Type: Thick Film; Packaging: Tape and Reel; Termination: SMD/SMT; Features: Moisture Resistant; Series: RC; Max Power Dissipation: 100mW; Number of Terminations: 2; Resistance Tolerance: 1%; Construction: Rectangular; Length: 1.6mm; Width: 0.8mm; Height: 0.45mm; Depth: 0.8mm; Lead Pitch: 0.3mm; Reach SVHC Compliant: No; Lead Free: Lead Free; Military Standard: Not; RoHS Compliant: Yes; Supplier Part Number 1: 311-10.0KHRCT-ND
footprint RES_0603
pins: 1, 2

## RES_10K_1/16W_1%_0402
designator R?, comment 10K
SMD Chip Resistor, 10 kOhm, ± 1%, 63 mW, 0402 [1005 Metric], Thick Film, General Purpose; Manufacturer 1: Yageo; Manufacturer Part Number 1: RC0402FR-0710KL; Voltage Rating (DC): 50V; Resistance: 10kR; Temperature Coefficient: 100ppm/°C; Power Rating: 62.5mW; Max Power Dissipation: 63mW; Supplier 1: Digi-Key; RoHS: Yes; Category: Chip SMD Resistors; Stock 1: 10978700; Pricing 1: 1=0.1, 10=0.014, 50=0.0084, 100=0.007, 500=0.00464, 1000=0.00396, 5000=0.00282 (USD); Case/Package: 0402; Number of Pins: 2; Case Code (Imperial): 0402; Case Code (Metric): 1005; Min Operating Temperature: -55°C; Max Operating Temperature: 155°C; Packaging: Tape and Reel; Resistor Type: Thick Film; Voltage Rating: 50V; Tolerance: 1%; Termination: SMD/SMT; Series: RC; Number of Terminations: 2; Features: Moisture Resistant; Resistance Tolerance: 1%; Construction: Rectangular; Length: 1mm; Width: 0.5mm; Depth: 0.5mm; Lead Pitch: 0.2mm; Lead Free: Lead Free; RoHS Compliant: Yes; Reach SVHC Compliant: Unknown; Military Standard: Not; Supplier Part Number 1: 311-10.0KLRCT-ND
footprint RES_0402
pins: 1, 2

## RES_10R_1/16W_0.1%_0402
designator R?, comment 10R
SMD Chip Resistor, 10 Ohm, ± 0.1%, 63 mW, 0402 [1005 Metric], Thin Film, High Precision High Stability; Manufacturer 1: Yageo; Manufacturer Part Number 1: RT0402BRD0710RL; Power Rating: 62.5mW; Voltage Rating: 50V; Temperature Coefficient: 25ppm/°C; Max Power Dissipation: 63mW; ComponentLink1URL: https://datasheet.ciiva.com/12723/pyu-rt-1-to-0-05-rohs-l-4-12723465.pdf?src-supplier=Mouser; ComponentLink1Description: https://datasheet.ciiva.com/12723/pyu-rt-1-to-0-05-rohs-l-4-12723465.pdf?src-supplier=Mouser; Supplier 1: Digi-Key; RoHS: Yes; Category: Chip SMD Resistors; Stock 1: 44390; Pricing 1: 1=0.45, 10=0.342, 50=0.1936, 100=0.1439, 500=0.1042, 1000=0.07939, 5000=0.06699 (USD); Case/Package: 0402; Case Code (Metric): 1005; Case Code (Imperial): 0402; Contact Plating: Tin,Lead; Size Code: 0402; Min Operating Temperature: -55°C; Max Operating Temperature: 125°C; Tolerance: 0.1%; Resistance: 10R; Packaging: Tape and Reel; Termination: SMD/SMT; Package Quantity: 10000; Number of Terminations: 2; Voltage Rating (DC): 50V; Features: Moisture Resistant; Series: RT; Length: 0.039inch; Width: 0.02inch; Height: 0.014inch; RoHS Compliant: Yes; Lead Free: Lead Free; Supplier Part Number 1: YAG3340CT-ND
footprint RES_0402
pins: 1, 2

## RES_12K-0.1W-1%-0402
designator R?, comment 12K
12 kOhms ±1% 0.1W, 1/10W Chip Resistor 0402 (1005 Metric) Anti-Sulfur Thin Film /; Manufacturer: Vishay Beyschlag/Draloric/BC Components; Manufacturer Part Number: MCS04020C1202FE000; Case/Package: 0402; Supplier-1: Digikey
footprint RES_0402
pins: 1, 2

## RES_12K-0.1W-1%-0603
designator R?, comment 12K
12 kOhms ±1% 0.1W, 1/10W Chip Resistor 0603 (1608 Metric) Thick Film /; Manufacturer: TE Connectivity Passive Product; Manufacturer Part Number: CRG0603F12K; Case/Package: 0603; Supplier-1: Digikey
footprint RES_0603 (CASE: 0603)
pins: 1, 2

## RES_12K-0.05W-1%-0201
designator R?, comment 12K
12 kOhms ±1% 0.05W, 1/20W Chip Resistor 0201 (0603 Metric) Thick Film /; Manufacturer: Yageo; Manufacturer Part Number: RC0201FR-0712KL; Case/Package: 0201; Supplier-1: Digikey
footprint RES_0201
pins: 1, 2

## RES_15K-0.1W-1%-0402
designator R?, comment 15K
15 kOhms ±1% 0.1W, 1/10W Chip Resistor 0402 (1005 Metric) Automotive AEC-Q200 Thick Film /; Manufacturer: Panasonic Electronic Components; Manufacturer Part Number: ERJ-2RKF1502X; Suplier-1: Digikey; Case/Package: 0402
footprint RES_0402
pins: 1, 2